# Altium footprint library EPCOS_B72214SXXXXK101.PcbLib: 1 footprints
Each footprint in its own frame and in the unit in brackets; x right, y up, seen from the top. Pads: shape width x height; smd on the part's side, far side on the other; paste and mask are expansions set on the pad; w line width, h text height; cw(c..) or ccw(c..) is an arc to the next point about the centre after c.
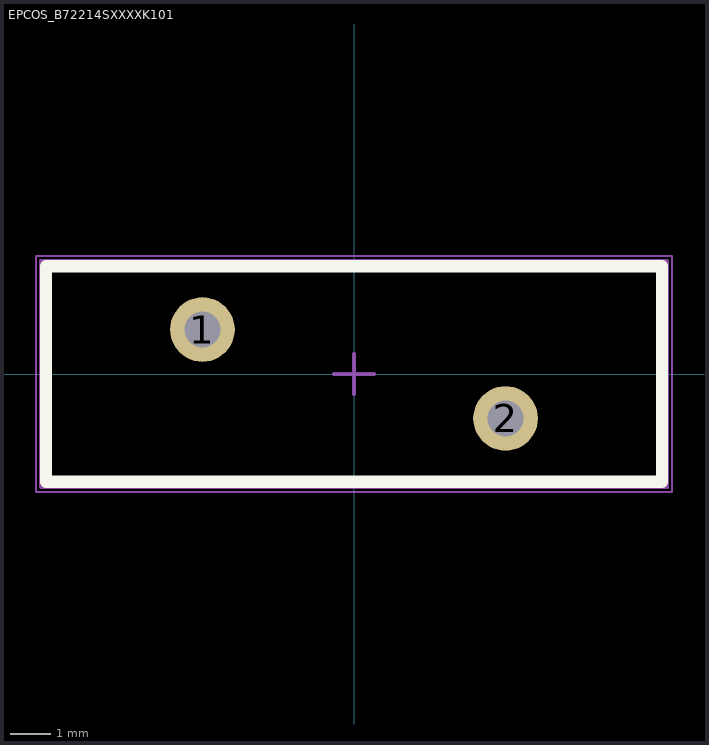
[diagram p0: the footprint, top view; thin cyan lines are the x and y axes]

## EPCOS_B72214SXXXXK101 [mm] "EPCOS_B72214SXXXXK101"
pads (2):
  round 1.6 hole 0.9 mask+0.05: 1(-3.75,1.1) 2(3.75,-1.1)
Top Overlay:
  lines w0.3: -7.62,-2.667 7.62,-2.667 7.62,2.667 -7.62,2.667 -7.62,-2.667
Mechanical 13:
  lines w0.1: -7.75,-2.8 -7.75,2.8 7.75,2.8 7.75,-2.8 -7.75,-2.8
Mechanical 15:
  lines w0.05: -7.874,-2.921 7.874,-2.921 7.874,2.921 -7.874,2.921 -7.874,-2.921
  lines w0.1: -0.5,0 0.5,0 ; 0,-0.5 0,0.5
3D body "EPCOS_B72214SXXXXK101.step": height 17.5, standoff -22.18, extent -7.5,-1.8 7.5,1.8